# EAGLE library part DI_MICROZED-(1)_MICROZED_REV_F (library CounterModule)
This library is distributed in the hope that it will be useful, but is provided AS IS with ABSOLUTELY NO WARRANTY; The entire risk as to the quality of the library is with you. Should the library prove defective, you assume the cost of all necessary servicing, repair, correction and etc. In no event will any of the developers, or any other party, be liable to anyone for damages arising out of the use or inability to use the library. MicroZed Rev F - based on schematics at: http://zedboard.com/sites/default/files/documentations/MicroZed_RevF_Schematic_140128.pdf
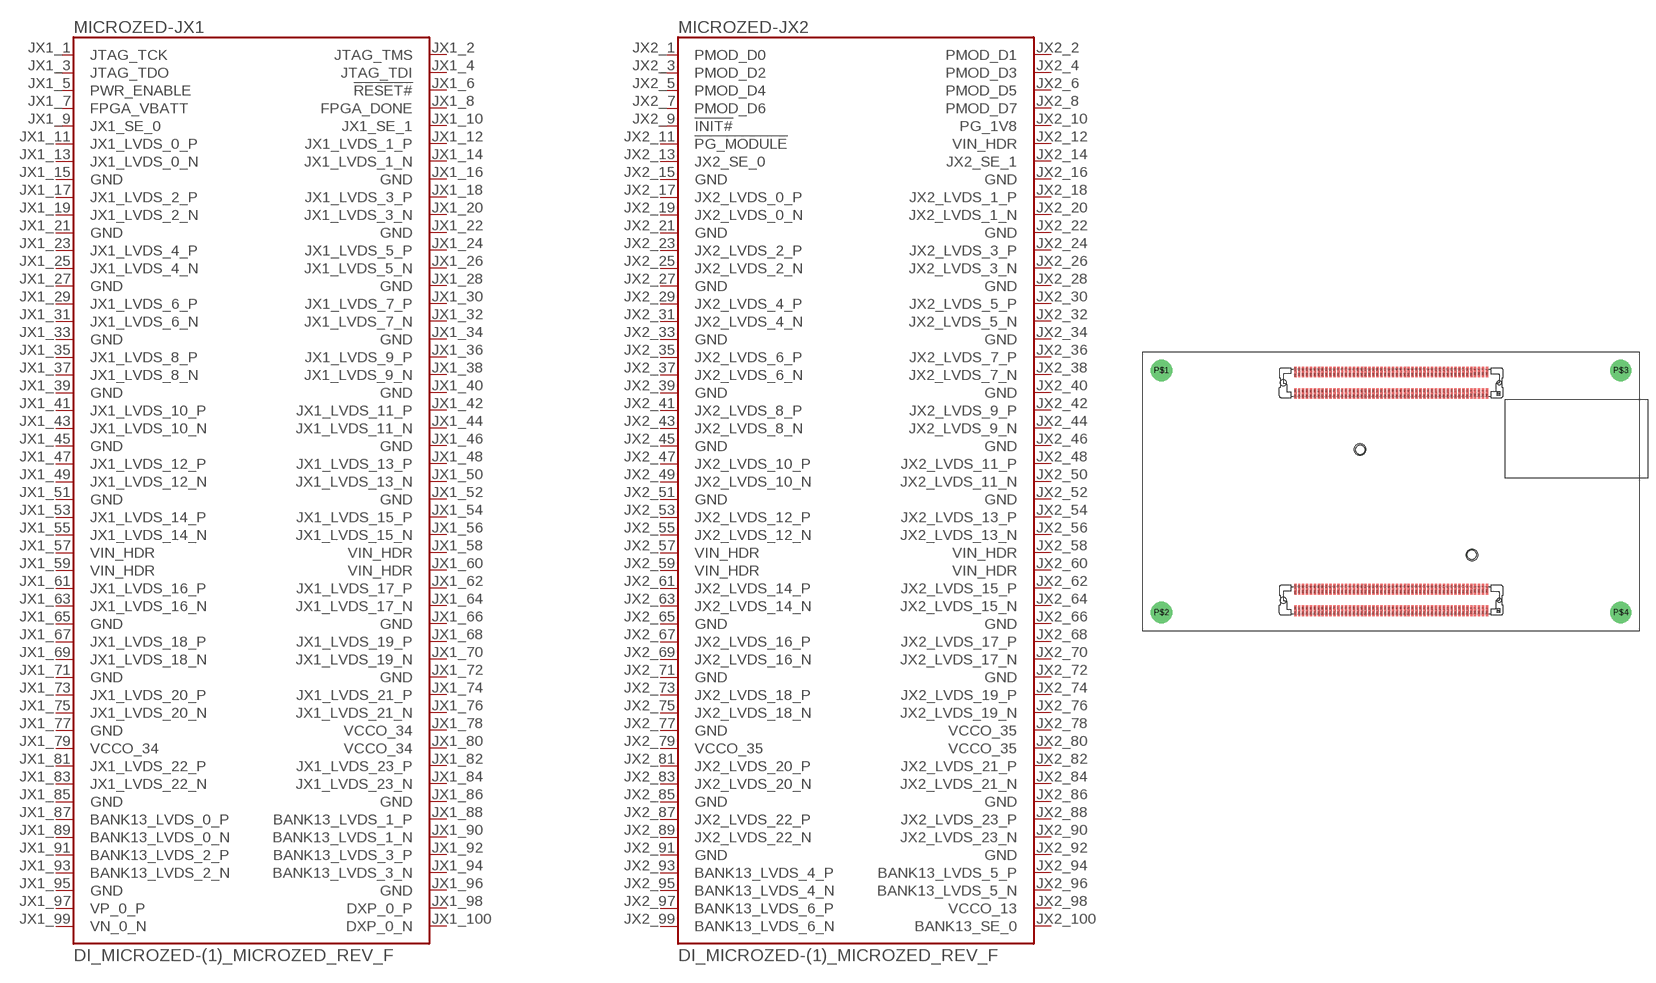
[diagram p7: symbol with the pads of DI_MICROZED-(1)_MICROZED_REV_F; footprint DI_MICROZED-(1)_MICROZED_REV_F]

Designator prefix MICROZED; gates -JX1=DI_MICROZED-(1)_MICROZED_F_JX1 -JX2=DI_MICROZED-(1)_MICROZED_F_JX2

## DI_MICROZED-(1)_MICROZED_REV_F  [DI_MICROZED-(1)_MICROZED_REV_F]
JX1_1  -JX1:JTAG_TCK
JX1_2  -JX1:JTAG_TMS
JX1_3  -JX1:JTAG_TDO
JX1_4  -JX1:JTAG_TDI
JX1_5  -JX1:PWR_ENABLE  in
JX1_6  -JX1:!RESET#  in
JX1_7  -JX1:FPGA_VBATT  pas
JX1_8  -JX1:FPGA_DONE  out
JX1_9  -JX1:JX1_SE_0  pas
JX1_10  -JX1:JX1_SE_1  pas
JX1_11  -JX1:JX1_LVDS_0_P
JX1_12  -JX1:JX1_LVDS_1_P
JX1_13  -JX1:JX1_LVDS_0_N
JX1_14  -JX1:JX1_LVDS_1_N
JX1_15  -JX1:GND  pwr
JX1_16  -JX1:GND  pwr
JX1_17  -JX1:JX1_LVDS_2_P
JX1_18  -JX1:JX1_LVDS_3_P
JX1_19  -JX1:JX1_LVDS_2_N
JX1_20  -JX1:JX1_LVDS_3_N
JX1_21  -JX1:GND  pwr
JX1_22  -JX1:GND  pwr
JX1_23  -JX1:JX1_LVDS_4_P
JX1_24  -JX1:JX1_LVDS_5_P
JX1_25  -JX1:JX1_LVDS_4_N
JX1_26  -JX1:JX1_LVDS_5_N
JX1_27  -JX1:GND  pwr
JX1_28  -JX1:GND  pwr
JX1_29  -JX1:JX1_LVDS_6_P
JX1_30  -JX1:JX1_LVDS_7_P
JX1_31  -JX1:JX1_LVDS_6_N
JX1_32  -JX1:JX1_LVDS_7_N
JX1_33  -JX1:GND  pwr
JX1_34  -JX1:GND  pwr
JX1_35  -JX1:JX1_LVDS_8_P
JX1_36  -JX1:JX1_LVDS_9_P
JX1_37  -JX1:JX1_LVDS_8_N
JX1_38  -JX1:JX1_LVDS_9_N
JX1_39  -JX1:GND  pwr
JX1_40  -JX1:GND  pwr
JX1_41  -JX1:JX1_LVDS_10_P
JX1_42  -JX1:JX1_LVDS_11_P
JX1_43  -JX1:JX1_LVDS_10_N
JX1_44  -JX1:JX1_LVDS_11_N
JX1_45  -JX1:GND  pwr
JX1_46  -JX1:GND  pwr
JX1_47  -JX1:JX1_LVDS_12_P
JX1_48  -JX1:JX1_LVDS_13_P
JX1_49  -JX1:JX1_LVDS_12_N
JX1_50  -JX1:JX1_LVDS_13_N
JX1_51  -JX1:GND  pwr
JX1_52  -JX1:GND  pwr
JX1_53  -JX1:JX1_LVDS_14_P
JX1_54  -JX1:JX1_LVDS_15_P
JX1_55  -JX1:JX1_LVDS_14_N
JX1_56  -JX1:JX1_LVDS_15_N
JX1_57  -JX1:VIN_HDR  pwr
JX1_58  -JX1:VIN_HDR  pwr
JX1_59  -JX1:VIN_HDR  pwr
JX1_60  -JX1:VIN_HDR  pwr
JX1_61  -JX1:JX1_LVDS_16_P
JX1_62  -JX1:JX1_LVDS_17_P
JX1_63  -JX1:JX1_LVDS_16_N
JX1_64  -JX1:JX1_LVDS_17_N
JX1_65  -JX1:GND  pwr
JX1_66  -JX1:GND  pwr
JX1_67  -JX1:JX1_LVDS_18_P
JX1_68  -JX1:JX1_LVDS_19_P
JX1_69  -JX1:JX1_LVDS_18_N
JX1_70  -JX1:JX1_LVDS_19_N
JX1_71  -JX1:GND  pwr
JX1_72  -JX1:GND  pwr
JX1_73  -JX1:JX1_LVDS_20_P
JX1_74  -JX1:JX1_LVDS_21_P
JX1_75  -JX1:JX1_LVDS_20_N
JX1_76  -JX1:JX1_LVDS_21_N
JX1_77  -JX1:GND  pwr
JX1_78  -JX1:VCCO_34  pwr
JX1_79  -JX1:VCCO_34  pwr
JX1_80  -JX1:VCCO_34  pwr
JX1_81  -JX1:JX1_LVDS_22_P
JX1_82  -JX1:JX1_LVDS_23_P
JX1_83  -JX1:JX1_LVDS_22_N
JX1_84  -JX1:JX1_LVDS_23_N
JX1_85  -JX1:GND  pwr
JX1_86  -JX1:GND  pwr
JX1_87  -JX1:BANK13_LVDS_0_P
JX1_88  -JX1:BANK13_LVDS_1_P
JX1_89  -JX1:BANK13_LVDS_0_N
JX1_90  -JX1:BANK13_LVDS_1_N
JX1_91  -JX1:BANK13_LVDS_2_P
JX1_92  -JX1:BANK13_LVDS_3_P
JX1_93  -JX1:BANK13_LVDS_2_N
JX1_94  -JX1:BANK13_LVDS_3_N
JX1_95  -JX1:GND  pwr
JX1_96  -JX1:GND  pwr
JX1_97  -JX1:VP_0_P
JX1_98  -JX1:DXP_0_P
JX1_99  -JX1:VN_0_N
JX1_100  -JX1:DXP_0_N
JX2_1  -JX2:PMOD_D0
JX2_2  -JX2:PMOD_D1
JX2_3  -JX2:PMOD_D2
JX2_4  -JX2:PMOD_D3
JX2_5  -JX2:PMOD_D4
JX2_6  -JX2:PMOD_D5
JX2_7  -JX2:PMOD_D6
JX2_8  -JX2:PMOD_D7
JX2_9  -JX2:!INIT#  in
JX2_10  -JX2:PG_1V8  pwr
JX2_11  -JX2:!PG_MODULE  pas
JX2_12  -JX2:VIN_HDR  pwr
JX2_13  -JX2:JX2_SE_0  pas
JX2_14  -JX2:JX2_SE_1  pas
JX2_15  -JX2:GND  pwr
JX2_16  -JX2:GND  pwr
JX2_17  -JX2:JX2_LVDS_0_P
JX2_18  -JX2:JX2_LVDS_1_P
JX2_19  -JX2:JX2_LVDS_0_N
JX2_20  -JX2:JX2_LVDS_1_N
JX2_21  -JX2:GND  pwr
JX2_22  -JX2:GND  pwr
JX2_23  -JX2:JX2_LVDS_2_P
JX2_24  -JX2:JX2_LVDS_3_P
JX2_25  -JX2:JX2_LVDS_2_N
JX2_26  -JX2:JX2_LVDS_3_N
JX2_27  -JX2:GND  pwr
JX2_28  -JX2:GND  pwr
JX2_29  -JX2:JX2_LVDS_4_P
JX2_30  -JX2:JX2_LVDS_5_P
JX2_31  -JX2:JX2_LVDS_4_N
JX2_32  -JX2:JX2_LVDS_5_N
JX2_33  -JX2:GND  pwr
JX2_34  -JX2:GND  pwr
JX2_35  -JX2:JX2_LVDS_6_P
JX2_36  -JX2:JX2_LVDS_7_P
JX2_37  -JX2:JX2_LVDS_6_N
JX2_38  -JX2:JX2_LVDS_7_N
JX2_39  -JX2:GND  pwr
JX2_40  -JX2:GND  pwr
JX2_41  -JX2:JX2_LVDS_8_P
JX2_42  -JX2:JX2_LVDS_9_P
JX2_43  -JX2:JX2_LVDS_8_N
JX2_44  -JX2:JX2_LVDS_9_N
JX2_45  -JX2:GND  pwr
JX2_46  -JX2:GND  pwr
JX2_47  -JX2:JX2_LVDS_10_P
JX2_48  -JX2:JX2_LVDS_11_P
JX2_49  -JX2:JX2_LVDS_10_N
JX2_50  -JX2:JX2_LVDS_11_N
JX2_51  -JX2:GND  pwr
JX2_52  -JX2:GND  pwr
JX2_53  -JX2:JX2_LVDS_12_P
JX2_54  -JX2:JX2_LVDS_13_P
JX2_55  -JX2:JX2_LVDS_12_N
JX2_56  -JX2:JX2_LVDS_13_N
JX2_57  -JX2:VIN_HDR  pwr
JX2_58  -JX2:VIN_HDR  pwr
JX2_59  -JX2:VIN_HDR  pwr
JX2_60  -JX2:VIN_HDR  pwr
JX2_61  -JX2:JX2_LVDS_14_P
JX2_62  -JX2:JX2_LVDS_15_P
JX2_63  -JX2:JX2_LVDS_14_N
JX2_64  -JX2:JX2_LVDS_15_N
JX2_65  -JX2:GND  pwr
JX2_66  -JX2:GND  pwr
JX2_67  -JX2:JX2_LVDS_16_P
JX2_68  -JX2:JX2_LVDS_17_P
JX2_69  -JX2:JX2_LVDS_16_N
JX2_70  -JX2:JX2_LVDS_17_N
JX2_71  -JX2:GND  pwr
JX2_72  -JX2:GND  pwr
JX2_73  -JX2:JX2_LVDS_18_P
JX2_74  -JX2:JX2_LVDS_19_P
JX2_75  -JX2:JX2_LVDS_18_N
JX2_76  -JX2:JX2_LVDS_19_N
JX2_77  -JX2:GND  pwr
JX2_78  -JX2:VCCO_35  pwr
JX2_79  -JX2:VCCO_35  pwr
JX2_80  -JX2:VCCO_35  pwr
JX2_81  -JX2:JX2_LVDS_20_P
JX2_82  -JX2:JX2_LVDS_21_P
JX2_83  -JX2:JX2_LVDS_20_N
JX2_84  -JX2:JX2_LVDS_21_N
JX2_85  -JX2:GND  pwr
JX2_86  -JX2:GND  pwr
JX2_87  -JX2:JX2_LVDS_22_P
JX2_88  -JX2:JX2_LVDS_23_P
JX2_89  -JX2:JX2_LVDS_22_N
JX2_90  -JX2:JX2_LVDS_23_N
JX2_91  -JX2:GND  pwr
JX2_92  -JX2:GND  pwr
JX2_93  -JX2:BANK13_LVDS_4_P
JX2_94  -JX2:BANK13_LVDS_5_P
JX2_95  -JX2:BANK13_LVDS_4_N
JX2_96  -JX2:BANK13_LVDS_5_N
JX2_97  -JX2:BANK13_LVDS_6_P
JX2_98  -JX2:VCCO_13  pwr
JX2_99  -JX2:BANK13_LVDS_6_N
JX2_100  -JX2:BANK13_SE_0

## Footprint DI_MICROZED-(1)_MICROZED_REV_F (pad centres in mm)
This library is distributed in the hope that it will be useful, but is provided AS IS with ABSOLUTELY NO WARRANTY; The entire risk as to the quality of the library is with you. Should the library prove defective, you assume the cost of all necessary servicing, repair, correction and etc. In no event will any of the developers, or any other party, be liable to anyone for damages arising out of the use or inability to use the library. MicroZed Rev F - based on next mechanical drawing: http://www.zedboard.org/sites/default/files/documentations/MicroZed_RevF_Mechanical_131029_PRELIMINARY.PDF
smd 0.5 x 2.2: JX1_1 19.6,-24.425; JX1_2 19.6,-20.025; JX1_3 18.8,-24.425; JX1_4 18.8,-20.025; JX1_5 18,-24.425; JX1_6 18,-20.025; JX1_7 17.2,-24.425; JX1_8 17.2,-20.025; JX1_9 16.4,-24.425; JX1_10 16.4,-20.025; JX1_11 15.6,-24.425; JX1_12 15.6,-20.025; JX1_13 14.8,-24.425; JX1_14 14.8,-20.025; JX1_15 14,-24.425; JX1_16 14,-20.025; JX1_17 13.2,-24.425; JX1_18 13.2,-20.025; JX1_19 12.4,-24.425; JX1_20 12.4,-20.025; JX1_21 11.6,-24.425; JX1_22 11.6,-20.025; JX1_23 10.8,-24.425; JX1_24 10.8,-20.025; JX1_25 10,-24.425; JX1_26 10,-20.025; JX1_27 9.2,-24.425; JX1_28 9.2,-20.025; JX1_29 8.4,-24.425; JX1_30 8.4,-20.025; JX1_31 7.6,-24.425; JX1_32 7.6,-20.025; JX1_33 6.8,-24.425; JX1_34 6.8,-20.025; JX1_35 6,-24.425; JX1_36 6,-20.025; JX1_37 5.2,-24.425; JX1_38 5.2,-20.025; JX1_39 4.4,-24.425; JX1_40 4.4,-20.025; JX1_41 3.6,-24.425; JX1_42 3.6,-20.025; JX1_43 2.8,-24.425; JX1_44 2.8,-20.025; JX1_45 2,-24.425; JX1_46 2,-20.025; JX1_47 1.2,-24.425; JX1_48 1.2,-20.025; JX1_49 0.4,-24.425; JX1_50 0.4,-20.025; JX1_51 -0.4,-24.425; JX1_52 -0.4,-20.025; JX1_53 -1.2,-24.425; JX1_54 -1.2,-20.025; JX1_55 -2,-24.425; JX1_56 -2,-20.025; JX1_57 -2.8,-24.425; JX1_58 -2.8,-20.025; JX1_59 -3.6,-24.425; JX1_60 -3.6,-20.025; JX1_61 -4.4,-24.425; JX1_62 -4.4,-20.025; JX1_63 -5.2,-24.425; JX1_64 -5.2,-20.025; JX1_65 -6,-24.425; JX1_66 -6,-20.025; JX1_67 -6.8,-24.425; JX1_68 -6.8,-20.025; JX1_69 -7.6,-24.425; JX1_70 -7.6,-20.025; JX1_71 -8.4,-24.425; JX1_72 -8.4,-20.025; JX1_73 -9.2,-24.425; JX1_74 -9.2,-20.025; JX1_75 -10,-24.425; JX1_76 -10,-20.025; JX1_77 -10.8,-24.425; JX1_78 -10.8,-20.025; JX1_79 -11.6,-24.425; JX1_80 -11.6,-20.025; JX1_81 -12.4,-24.425; JX1_82 -12.4,-20.025; JX1_83 -13.2,-24.425; JX1_84 -13.2,-20.025; JX1_85 -14,-24.425; JX1_86 -14,-20.025; JX1_87 -14.8,-24.425; JX1_88 -14.8,-20.025; JX1_89 -15.6,-24.425; JX1_90 -15.6,-20.025; JX1_91 -16.4,-24.425; JX1_92 -16.4,-20.025; JX1_93 -17.2,-24.425; JX1_94 -17.2,-20.025; JX1_95 -18,-24.425; JX1_96 -18,-20.025; JX1_97 -18.8,-24.425; JX1_98 -18.8,-20.025; JX1_99 -19.6,-24.425; JX1_100 -19.6,-20.025; JX2_1 19.6,20.025; JX2_2 19.6,24.425; JX2_3 18.8,20.025; JX2_4 18.8,24.425; JX2_5 18,20.025; JX2_6 18,24.425; JX2_7 17.2,20.025; JX2_8 17.2,24.425; JX2_9 16.4,20.025; JX2_10 16.4,24.425; JX2_11 15.6,20.025; JX2_12 15.6,24.425; JX2_13 14.8,20.025; JX2_14 14.8,24.425; JX2_15 14,20.025; JX2_16 14,24.425; JX2_17 13.2,20.025; JX2_18 13.2,24.425; JX2_19 12.4,20.025; JX2_20 12.4,24.425; JX2_21 11.6,20.025; JX2_22 11.6,24.425; JX2_23 10.8,20.025; JX2_24 10.8,24.425; JX2_25 10,20.025; JX2_26 10,24.425; JX2_27 9.2,20.025; JX2_28 9.2,24.425; JX2_29 8.4,20.025; JX2_30 8.4,24.425; JX2_31 7.6,20.025; JX2_32 7.6,24.425; JX2_33 6.8,20.025; JX2_34 6.8,24.425; JX2_35 6,20.025; JX2_36 6,24.425; JX2_37 5.2,20.025; JX2_38 5.2,24.425; JX2_39 4.4,20.025; JX2_40 4.4,24.425; JX2_41 3.6,20.025; JX2_42 3.6,24.425; JX2_43 2.8,20.025; JX2_44 2.8,24.425; JX2_45 2,20.025; JX2_46 2,24.425; JX2_47 1.2,20.025; JX2_48 1.2,24.425; JX2_49 0.4,20.025; JX2_50 0.4,24.425; JX2_51 -0.4,20.025; JX2_52 -0.4,24.425; JX2_53 -1.2,20.025; JX2_54 -1.2,24.425; JX2_55 -2,20.025; JX2_56 -2,24.425; JX2_57 -2.8,20.025; JX2_58 -2.8,24.425; JX2_59 -3.6,20.025; JX2_60 -3.6,24.425; JX2_61 -4.4,20.025; JX2_62 -4.4,24.425; JX2_63 -5.2,20.025; JX2_64 -5.2,24.425; JX2_65 -6,20.025; JX2_66 -6,24.425; JX2_67 -6.8,20.025; JX2_68 -6.8,24.425; JX2_69 -7.6,20.025; JX2_70 -7.6,24.425; JX2_71 -8.4,20.025; JX2_72 -8.4,24.425; JX2_73 -9.2,20.025; JX2_74 -9.2,24.425; JX2_75 -10,20.025; JX2_76 -10,24.425; JX2_77 -10.8,20.025; JX2_78 -10.8,24.425; JX2_79 -11.6,20.025; JX2_80 -11.6,24.425; JX2_81 -12.4,20.025; JX2_82 -12.4,24.425; JX2_83 -13.2,20.025; JX2_84 -13.2,24.425; JX2_85 -14,20.025; JX2_86 -14,24.425; JX2_87 -14.8,20.025; JX2_88 -14.8,24.425; JX2_89 -15.6,20.025; JX2_90 -15.6,24.425; JX2_91 -16.4,20.025; JX2_92 -16.4,24.425; JX2_93 -17.2,20.025; JX2_94 -17.2,24.425; JX2_95 -18,20.025; JX2_96 -18,24.425; JX2_97 -18.8,20.025; JX2_98 -18.8,24.425; JX2_99 -19.6,20.025; JX2_100 -19.6,24.425
drill 3.175 pad 4.318: P$1 -46.99,24.765; P$2 -46.99,-24.765; P$3 46.99,24.765; P$4 46.99,-24.765
hole 2.362 at -6.325,8.56
hole 2.362 at 16.51,-12.954
hole 0.8 at 22.1,22.225
hole 1.2 at -22.1,22.225
hole 0.8 at 22.1,-22.225
hole 1.2 at -22.1,-22.225